# EAGLE library part LMR36506 (library PWR)
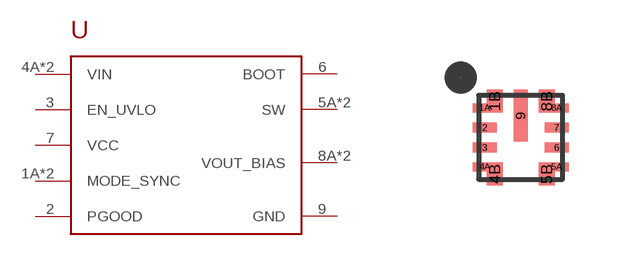
[diagram p0: symbol with the pads of 9-VFQFN; footprint 9-VFQFN]

Designator prefix U

## LMR36506LMR36506MSC5  [9-VFQFN]
1A  MODE_SYNC
1B  MODE_SYNC
2  PGOOD
3  EN_UVLO
4A  VIN
4B  VIN
5A  SW
5B  SW
6  BOOT
7  VCC
8A  VOUT_BIAS
8B  VOUT_BIAS
9  GND

## LMR36506LMR36506MSC3  [9-VFQFN]
Pads as for 9-VFQFN

## Footprint 9-VFQFN (pad centres in mm)
smd 0.6 x 0.225: 1A -0.9,0.738; 4A -0.9,-0.738; 5A 0.9,-0.738; 8A 0.9,0.738
smd 0.4 x 0.575: 1B -0.65,0.913; 4B -0.65,-0.913; 5B 0.65,-0.913; 8B 0.65,0.913
smd 0.6 x 0.25: 2 -0.9,0.25; 3 -0.9,-0.25; 6 0.9,-0.25; 7 0.9,0.25
smd 0.35 x 1.3: 9 0,0.55